# Altium footprint library L_PLANAR_31uH_35mm.PcbLib: 1 footprints
Each footprint in its own frame and in the unit in brackets; x right, y up, seen from the top. Pads: shape width x height; smd on the part's side, far side on the other; paste and mask are expansions set on the pad; w line width, h text height; cw(c..) or ccw(c..) is an arc to the next point about the centre after c.
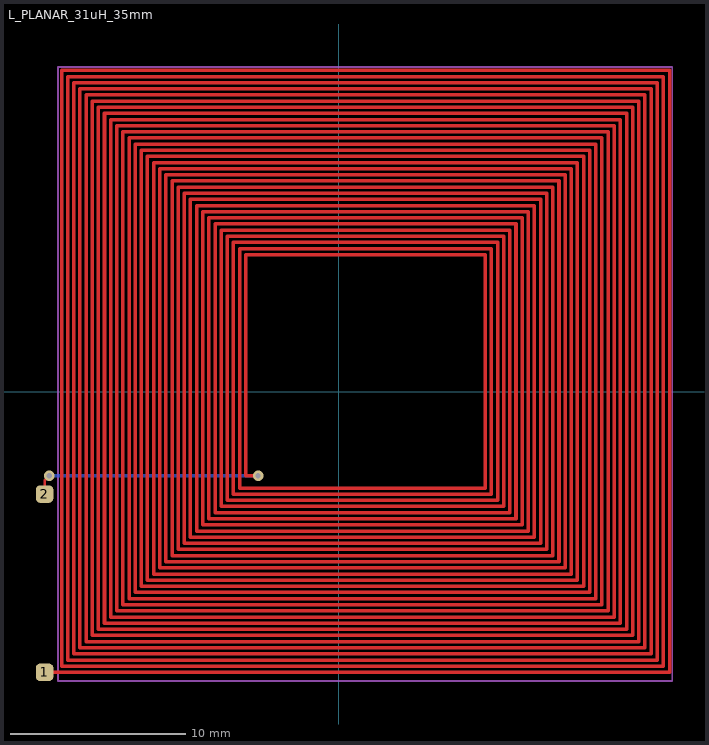
[diagram p0: the footprint, top view; thin cyan lines are the x and y axes]

## L_PLANAR_31uH_35mm [mm]
pads (2):
  rrect50% 1x1 smd: 1(-16.764,-16) 2(-16.764,-5.842)
via -16.5,-4.8 diameter 0.6 hole 0.3
via -4.6,-4.8 diameter 0.6 hole 0.3
Top Layer:
  lines w0.15: -16.764,-5.842 -16.764,-5.064 -16.5,-4.8
  lines w0.2: -16.764,-16 18.85,-16 18.85,18.3 -15.8,18.3 -15.8,-15.65 18.5,-15.65 18.5,17.95 -15.45,17.95 -15.45,-15.3 18.15,-15.3 18.15,17.6 -15.1,17.6 -15.1,-14.95 17.8,-14.95 17.8,17.25 -14.75,17.25 -14.75,-14.6 17.45,-14.6 17.45,16.9 -14.4,16.9 -14.4,-14.25 17.1,-14.25 17.1,16.55 -14.05,16.55 -14.05,-13.9 16.75,-13.9 16.75,16.2 -13.7,16.2 -13.7,-13.55 16.4,-13.55 16.4,15.85 -13.35,15.85 -13.35,-13.2 16.05,-13.2 16.05,15.5 -13,15.5 -13,-12.85 15.7,-12.85 15.7,15.15 -12.65,15.15 -12.65,-12.5 15.35,-12.5 15.35,14.8 -12.3,14.8 -12.3,-12.15 15,-12.15 15,14.45 -11.95,14.45 -11.95,-11.8 14.65,-11.8 14.65,14.1 -11.6,14.1 -11.6,-11.45 14.3,-11.45 14.3,13.75 -11.25,13.75 -11.25,-11.1 13.95,-11.1 13.95,13.4 -10.9,13.4 -10.9,-10.75 13.6,-10.75 13.6,13.05 -10.55,13.05 -10.55,-10.4 13.25,-10.4 13.25,12.7 -10.2,12.7 -10.2,-10.05 12.9,-10.05 12.9,12.35 -9.85,12.35 -9.85,-9.7 12.55,-9.7 12.55,12 -9.5,12 -9.5,-9.35 12.2,-9.35 12.2,11.65 -9.15,11.65 -9.15,-9 11.85,-9 11.85,11.3 -8.8,11.3 -8.8,-8.65 11.5,-8.65 11.5,10.95 -8.45,10.95 -8.45,-8.3 11.15,-8.3 11.15,10.6 -8.1,10.6 -8.1,-7.95 10.8,-7.95 10.8,10.25 -7.75,10.25 -7.75,-7.6 10.45,-7.6 10.45,9.9 -7.4,9.9 -7.4,-7.25 10.1,-7.25 10.1,9.55 -7.05,9.55 -7.05,-6.9 9.75,-6.9 9.75,9.2 -6.7,9.2 -6.7,-6.55 9.4,-6.55 9.4,8.85 -6.35,8.85 -6.35,-6.2 9.05,-6.2 9.05,8.5 -6,8.5 -6,-5.85 8.7,-5.85 8.7,8.15 -5.65,8.15 -5.65,-5.5 8.35,-5.5 8.35,7.8 -5.3,7.8 -5.3,-4.8 -4.6,-4.8
Bottom Layer:
  lines w0.2: -16.5,-4.8 -4.6,-4.8
Top Courtyard:
  lines w0.1: -16,-16.5 19,-16.5 19,18.5 -16,18.5 -16,-16.5